# EAGLE library part CONNECTOR-8 (library eagle-library-engr-245-s22)
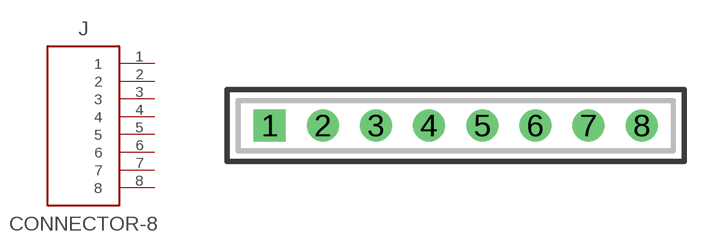
[diagram p0: symbol with the pads of COPY; footprint COPY]

Designator prefix J

## CONNECTOR-8_ESQ-1X8  [COPY]
1  1
2  2
3  3
4  4
5  5
6  6
7  7
8  8

## Footprint COPY (pad centres in mm)
drill 1.016 pad 1.524 square: 1 0,0
drill 1.016 pad 1.524: 2 2.54,0; 3 5.08,0; 4 7.62,0; 5 10.16,0; 6 12.7,0; 7 15.24,0; 8 17.78,0